# EAGLE library part POLOLU_MOTOR_DRV8835 (library pololu)
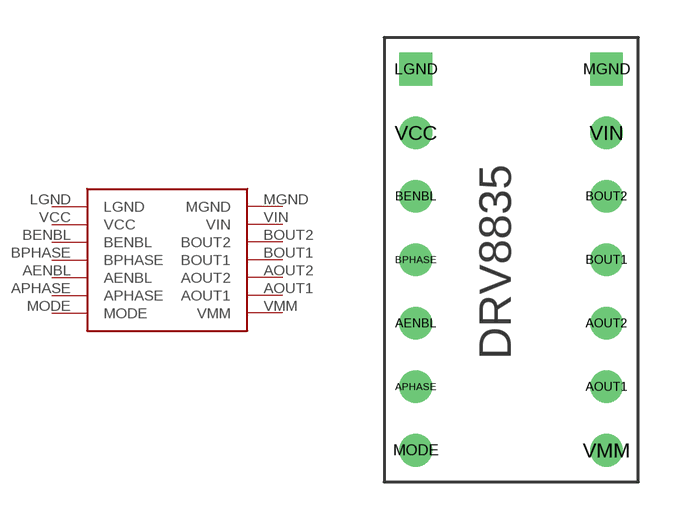
[diagram p0: symbol with the pads of POLOLU_MOTOR_DRV_DRV8835; footprint POLOLU_MOTOR_DRV_DRV8835]

Designator prefix -

## POLOLU_MOTOR_DRV8835THROUGHHOLE  [POLOLU_MOTOR_DRV_DRV8835]
AENBL  AENBL
AOUT1  AOUT1
AOUT2  AOUT2
APHASE  APHASE
BENBL  BENBL
BOUT1  BOUT1
BOUT2  BOUT2
BPHASE  BPHASE
LGND  LGND
MGND  MGND
MODE  MODE
VCC  VCC
VIN  VIN
VMM  VMM

## Footprint POLOLU_MOTOR_DRV_DRV8835 (pad centres in mm)
DRV8835 Dual Motor Driver Carrier Pololu breakout board for TI’s DRV8835 dual motor driver.
drill 0.8: AENBL 1.27,6.35; AOUT1 8.89,3.81; AOUT2 8.89,6.35; APHASE 1.27,3.81; BENBL 1.27,11.43; BOUT1 8.89,8.89; BOUT2 8.89,11.43; BPHASE 1.27,8.89; MODE 1.27,1.27; VCC 1.27,13.97; VIN 8.89,13.97; VMM 8.89,1.27
drill 0.8 square: LGND 1.27,16.51; MGND 8.89,16.51